# EAGLE library part RT8299 (library Regulator)
The RT8299 is a high efficiency, monolithic synchronous step-down DC/DC converter with internal power MOSFETs. It achieves 3A of continuous output current over a wide input supply range from 3V to 24V with excellent load and line regulation. Current mode operation provides fast transient response and eases loop stabilization. Cycleby- cycle current limit provides protection against shorted outputs and soft-start eliminates input current surge during start-up. Thermal shutdown provides reliable, fault tolerant operation. The low current shutdown mode provides output disconnection, enabling easy power management in battery powered systems.
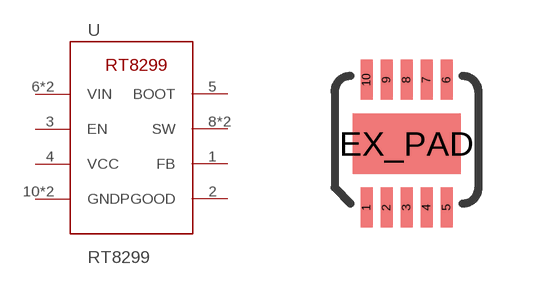
[diagram p5: symbol with the pads of WDFN-10L(3X3); footprint WDFN-10L(3X3)]

Designator prefix U

## RT8299GQW  [WDFN-10L(3X3)]
1  FB  pwr
2  PGOOD  in
3  EN  in
4  VCC  pwr
5  BOOT  pwr
6  VIN  pwr
7  VIN  pwr
8  SW  out
9  SW  out
10  GND  pwr
EX_PAD  GND  pwr

## Footprint WDFN-10L(3X3) (pad centres in mm)
smd 0.3 x 1: 1 0.5,-0.1; 2 1,-0.1; 3 1.5,-0.1; 4 2,-0.1; 5 2.5,-0.1; 6 2.5,3.1; 7 2,3.1; 8 1.5,3.1; 9 1,3.1; 10 0.5,3.1
smd 2.7 x 1.5: EX_PAD 1.5,1.5